# Altium footprint library posadochnie.PcbLib: 17 footprints (part 1 of 2)
Each footprint in its own frame and in the unit in brackets; x right, y up, seen from the top. Pads: shape width x height; smd on the part's side, far side on the other; paste and mask are expansions set on the pad; w line width, h text height; cw(c..) or ccw(c..) is an arc to the next point about the centre after c.
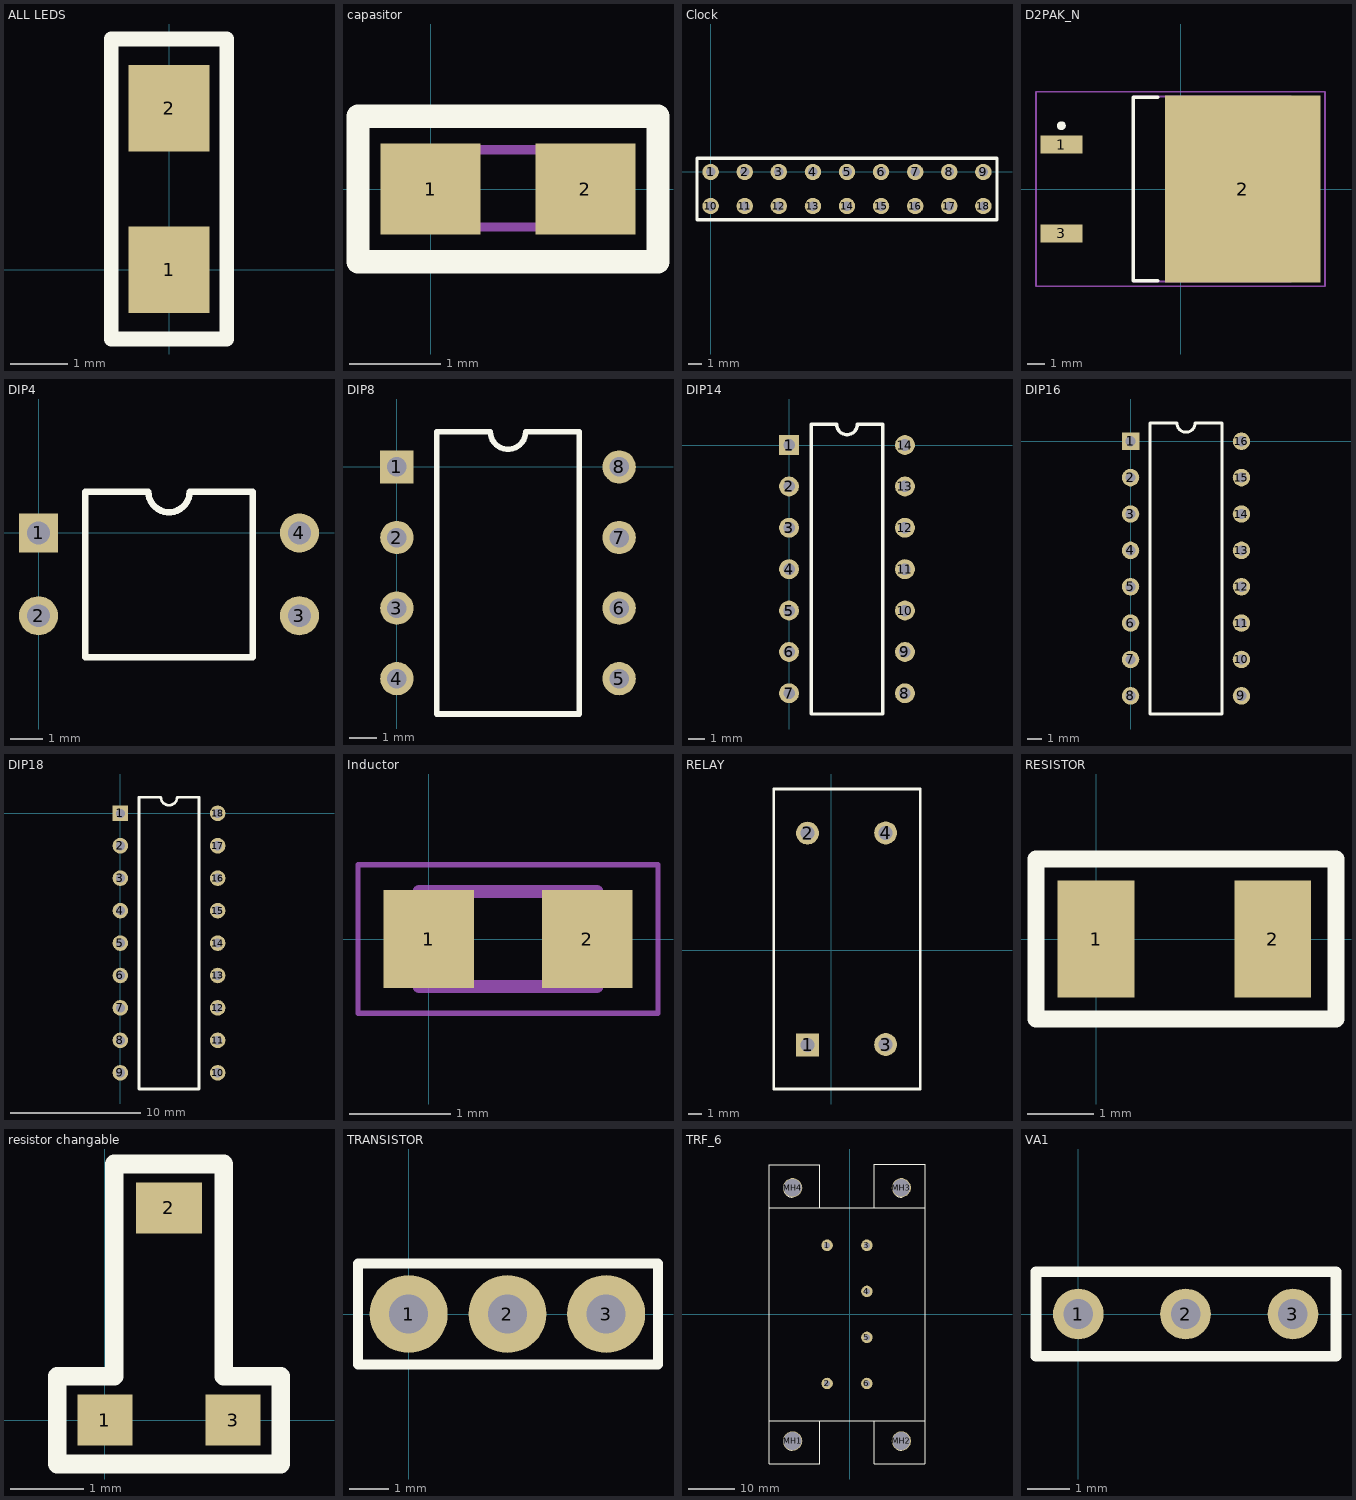
[diagram p0: the footprints below, top view; thin cyan lines are the x and y axes]

## ALL LEDS [mm] "LED"
pads (2):
  rect 1.4x1.5 smd: 1(0,0) 2(0,2.8)
Top Overlay:
  lines w0.254: -1,-1.2 -1,4 1,4 1,-1.2 -1,-1.2

## capasitor [mm] "common"
pads (2):
  rect 1.1x1 smd: 1(0,0) 2(1.7,0)
Top Overlay:
  lines w0.254: -0.8,-0.8 -0.8,0.8 2.5,0.8 2.5,-0.8 -0.8,-0.8
Mechanical 13:
  region: 0.512,-0.47 0.011,-0.47 0.011,0.48 0.512,0.48
  region: 1.68,-0.471 1.181,-0.471 1.181,0.48 1.68,0.48
  lines w0.102: 0.494,-0.419 1.206,-0.419 ; 0.494,0.432 1.206,0.432

## Clock [mm] "DA08-11GWA"
pads (18):
  round 1.2 hole 0.7: 1(0,0) 2(2.5,0) 3(5,0) 4(7.5,0) 5(10,0) 6(12.5,0) 7(15,0) 8(17.5,0) 9(20,0) 10(0,-2.5) 11(2.5,-2.5) 12(5,-2.5) 13(7.5,-2.5) 14(10,-2.5) 15(12.5,-2.5) 16(15,-2.5) 17(17.5,-2.5) 18(20,-2.5)
Top Overlay:
  lines w0.254: -1,-3.5 -1,1 21,1 21,-3.5 -1,-3.5

## D2PAK_N [mm] "D2-PAK, 4-Leads, Body 8.8x10.4mm, Pitch 2.54mm, Lead Span 15.1mm, IPC Medium Density"
height 4.69
pads (3):
  rect 2.4x1.05 smd: 1(-6.8,2.54) 3(-6.8,-2.54)
  rect 8.9x10.65 smd: 2(3.55,0)
Top Overlay:
  circle w0.25: c-6.8,3.615 r0.125
  lines w0.2: -1.3,-5.25 -2.7,-5.25 -2.7,5.25 -1.3,5.25
Mechanical 13:
  lines w0.1: -2.7,-5.275 6.3,-5.275 6.3,5.275 -2.7,5.275 -2.7,-5.275
Mechanical 15:
  lines w0.1: -0.5,0 0.5,0 ; 0,-0.5 0,0.5 ; -8.25,-5.55 8.25,-5.55 8.25,5.55 -8.25,5.55 -8.25,-5.55
3D body: height 4.69, standoff 0, extent -2.7,-5.275 6.3,5.275

## DIP4 [mm]
pads (4):
  rect 1.2x1.2 hole 0.7: 1(0,0)
  round 1.2 hole 0.7: 2(0,-2.54) 3(8,-2.54) 4(8,0)
Top Overlay:
  lines w0.2: 1.435,-3.81 6.565,-3.81 6.565,1.27 4.635,1.27 cw(c4,1.27) 3.365,1.27 1.435,1.27 1.435,-3.81

## DIP8 [mm]
pads (8):
  rect 1.2x1.2 hole 0.7: 1(0,0)
  round 1.2 hole 0.7: 2(0,-2.54) 3(0,-5.08) 4(0,-7.62) 5(8,-7.62) 6(8,-5.08) 7(8,-2.54) 8(8,0)
Top Overlay:
  lines w0.2: 1.435,-8.89 6.565,-8.89 6.565,1.27 4.635,1.27 cw(c4,1.27) 3.365,1.27 1.435,1.27 1.435,-8.89

## DIP14 [mm]
pads (14):
  rect 1.2x1.2 hole 0.7: 1(0,0)
  round 1.2 hole 0.7: 2(0,-2.5) 3(0,-5) 4(0,-7.5) 5(0,-10) 6(0,-12.5) 7(0,-15) 8(7,-15) 9(7,-12.5) 10(7,-10) 11(7,-7.5) 12(7,-5) 13(7,-2.5) 14(7,0)
Top Overlay:
  lines w0.2: 1.335,-16.25 5.665,-16.25 5.665,1.25 4.125,1.25 cw(c3.5,1.25) 2.875,1.25 1.335,1.25 1.335,-16.25

## DIP16 [mm]
pads (16):
  rect 1.2x1.2 hole 0.7: 1(0,0)
  round 1.2 hole 0.7: 2(0,-2.5) 3(0,-5) 4(0,-7.5) 5(0,-10) 6(0,-12.5) 7(0,-15) 8(0,-17.5) 9(7.62,-17.5) 10(7.62,-15) 11(7.62,-12.5) 12(7.62,-10) 13(7.62,-7.5) 14(7.62,-5) 15(7.62,-2.5) 16(7.62,0)
Top Overlay:
  lines w0.2: 1.335,-18.75 6.285,-18.75 6.285,1.25 4.435,1.25 cw(c3.81,1.25) 3.185,1.25 1.335,1.25 1.335,-18.75

## DIP18 [mm]
pads (18):
  rect 1.2x1.2 / inner rect 1x1.2 / far side rect 1.2x1.2 hole 0.7: 1(0,0)
  round 1.2 / inner oval 1x1.2 / far side round 1.2 hole 0.7: 2(0,-2.5) 3(0,-5) 6(0,-12.5) 7(0,-15) 8(0,-17.5) 9(0,-20) 10(7.5,-20) 11(7.5,-17.5) 12(7.5,-15) 13(7.5,-12.5) 14(7.5,-10) 15(7.5,-7.5) 16(7.5,-5) 17(7.5,-2.5) 18(7.5,0)
  round 1.2 hole 0.7: 4(0,-7.5) 5(0,-10)
Top Overlay:
  lines w0.2: 1.435,-21.25 6.065,-21.25 6.065,1.25 4.375,1.25 cw(c3.75,1.25) 3.125,1.25 1.435,1.25 1.435,-21.25

## Inductor [mm] "*"
pads (2):
  rect 0.9x0.97 smd: 1(0,0) 2(1.57,0)
Mechanical 13:
  lines w0.127: -0.095,-0.47 1.665,-0.47 1.665,0.47 -0.095,0.47 -0.095,-0.47
Mechanical 15:
  lines w0.05: -0.7,-0.735 2.27,-0.735 2.27,0.735 -0.7,0.735 -0.7,-0.735

## RELAY [mm] "DIP; 4 Round Pins; Row Space 27.94 mm; Pitch 15.24 mm"
height 14
pads (4):
  rect 1.65x1.65 hole 1: 1(-1.724,-6.82)
  round 1.65 hole 1: 2(-1.724,8.42) 3(3.9,-6.8) 4(3.9,8.44)
Top Overlay:
  lines w0.2: -4.161,-10 6.4,-10 6.4,11.6 -4.161,11.6 -4.161,-10

## RESISTOR [mm]
pads (2):
  rect 1.15x1.75 smd: 1(0,0) 2(2.65,0)
Top Overlay:
  lines w0.254: -0.9,-1.2 -0.9,1.2 3.6,1.2 3.6,-1.2 -0.9,-1.2

## resistor changable [mm] "Trimmer Resistor -Murata"
pads (3):
  rect 0.75x0.7 smd: 1(0,0) 3(1.75,0)
  rect 0.9x0.7 smd: 2(0.875,2.9)
Top Overlay:
  lines w0.254: -0.65,-0.6 2.4,-0.6 2.4,0.6 1.625,0.6 1.625,3.5 0.125,3.5 0.125,0.6 -0.65,0.6 -0.65,-0.6

## TRANSISTOR [mm] "KT315"
height 5
pads (3):
  round 2 hole 1: 1(0,0) 2(2.534,0) 3(5.069,0)
Top Overlay:
  lines w0.254: -1.3,-1.3 6.4,-1.3 6.4,1.3 -1.3,1.3 -1.3,-1.3

## TRF_6 [mil] "Transformer; 6 Leads"
pads (10):
  round 98 hole 52: 1(-192.31,590.83) 2(-192.31,-590.83) 3(147.69,590.83) 4(147.69,196.67) 5(147.69,-196.67) 6(147.69,-590.83)
  round 165 hole 152: MH1(-487.31,-1082.69) MH2(442.69,-1082.69) MH3(442.69,1082.69) MH4(-487.31,1082.69)
Top Overlay:
  lines w8: -688.98,-1279.53 -688.98,1279.53 ; -688.98,-1277.69 -255.64,-1277.69 -255.64,-911.02 ; -688.98,1277.69 -255.64,1277.69 -255.64,911.02 ; -687.99,-911.02 644.68,-911.02 ; -687.99,911.02 644.68,911.02 ; -488.98,-1161.02 cw(c-488.98,-1086.02) -488.98,-1011.02 ; -488.98,1002.69 cw(c-488.98,1077.69) -488.98,1152.69 ; 211.02,-911.02 211.02,-1277.69 644.68,-1277.69 644.68,1286.02 211.02,1286.02 211.02,911.02 ; 444.36,-1161.02 cw(c444.36,-1086.02) 444.36,-1011.02 ; 444.36,1002.69 cw(c444.36,1077.69) 444.36,1152.69

## VA1 [mm]
pads (3):
  round 1.2 hole 0.7: 1(0,0) 2(2.54,0) 3(5.08,0)
Top Overlay:
  lines w0.254: -1,-1 -1,0 -1,1 6.1,1 6.1,0.5 6.1,-0.5 6.1,-1 -1,-1